# EAGLE library part STM32F103RBT6 (library growbot)
STM32F103 - Advanced ARM-based 32-bit MCU with Flash, USB, CAN, 8 16-bit timers, 2 ADC, 2 DAC, 11 communication interfaces
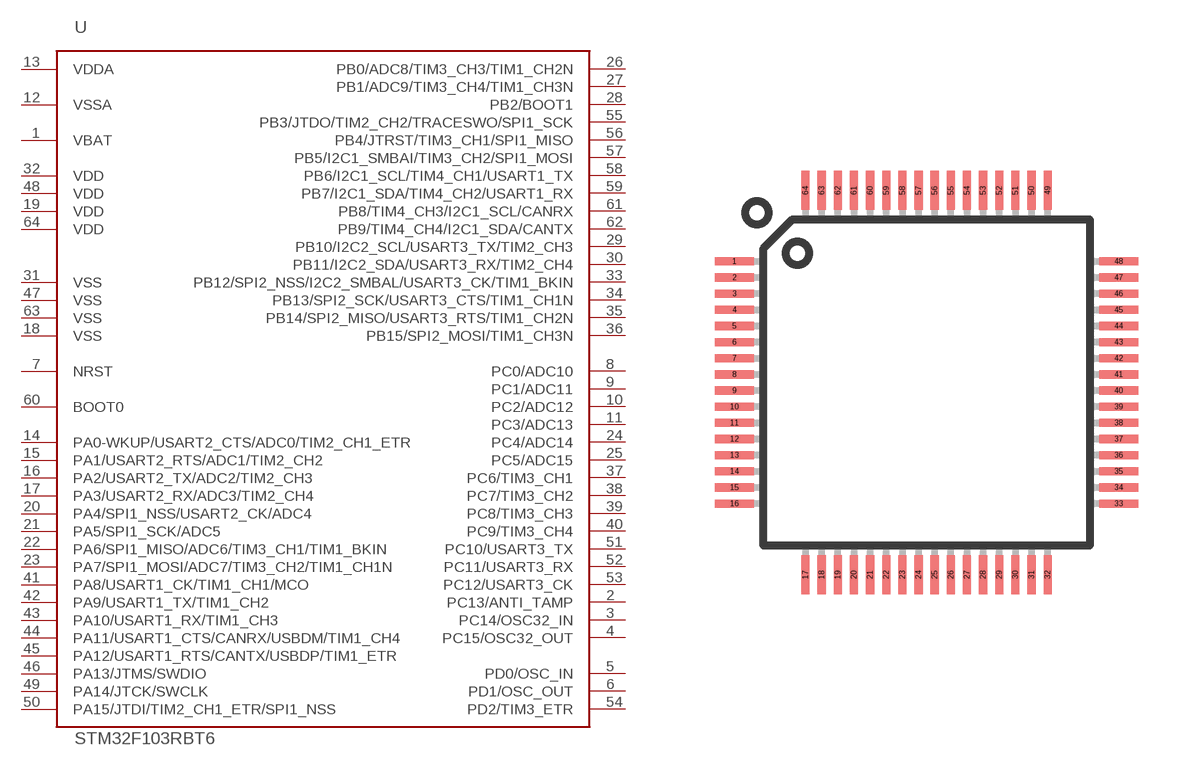
[diagram p14: symbol with the pads of LPTQFP64; footprint LPTQFP64]

Designator prefix U

## STM32F103RBT6LQFP64  [LPTQFP64]
1  VBAT  pwr
2  PC13/ANTI_TAMP
3  PC14/OSC32_IN
4  PC15/OSC32_OUT
5  PD0/OSC_IN
6  PD1/OSC_OUT
7  NRST  in
8  PC0/ADC10
9  PC1/ADC11
10  PC2/ADC12
11  PC3/ADC13
12  VSSA  pwr
13  VDDA  pwr
14  PA0-WKUP/USART2_CTS/ADC0/TIM2_CH1_ETR
15  PA1/USART2_RTS/ADC1/TIM2_CH2
16  PA2/USART2_TX/ADC2/TIM2_CH3
17  PA3/USART2_RX/ADC3/TIM2_CH4
18  VSS  pwr
19  VDD  pwr
20  PA4/SPI1_NSS/USART2_CK/ADC4
21  PA5/SPI1_SCK/ADC5
22  PA6/SPI1_MISO/ADC6/TIM3_CH1/TIM1_BKIN
23  PA7/SPI1_MOSI/ADC7/TIM3_CH2/TIM1_CH1N
24  PC4/ADC14
25  PC5/ADC15
26  PB0/ADC8/TIM3_CH3/TIM1_CH2N
27  PB1/ADC9/TIM3_CH4/TIM1_CH3N
28  PB2/BOOT1
29  PB10/I2C2_SCL/USART3_TX/TIM2_CH3
30  PB11/I2C2_SDA/USART3_RX/TIM2_CH4
31  VSS  pwr
32  VDD  pwr
33  PB12/SPI2_NSS/I2C2_SMBAL/USART3_CK/TIM1_BKIN
34  PB13/SPI2_SCK/USART3_CTS/TIM1_CH1N
35  PB14/SPI2_MISO/USART3_RTS/TIM1_CH2N
36  PB15/SPI2_MOSI/TIM1_CH3N
37  PC6/TIM3_CH1
38  PC7/TIM3_CH2
39  PC8/TIM3_CH3
40  PC9/TIM3_CH4
41  PA8/USART1_CK/TIM1_CH1/MCO
42  PA9/USART1_TX/TIM1_CH2
43  PA10/USART1_RX/TIM1_CH3
44  PA11/USART1_CTS/CANRX/USBDM/TIM1_CH4
45  PA12/USART1_RTS/CANTX/USBDP/TIM1_ETR
46  PA13/JTMS/SWDIO
47  VSS  pwr
48  VDD  pwr
49  PA14/JTCK/SWCLK
50  PA15/JTDI/TIM2_CH1_ETR/SPI1_NSS
51  PC10/USART3_TX
52  PC11/USART3_RX
53  PC12/USART3_CK
54  PD2/TIM3_ETR
55  PB3/JTDO/TIM2_CH2/TRACESWO/SPI1_SCK
56  PB4/JTRST/TIM3_CH1/SPI1_MISO
57  PB5/I2C1_SMBAI/TIM3_CH2/SPI1_MOSI
58  PB6/I2C1_SCL/TIM4_CH1/USART1_TX
59  PB7/I2C1_SDA/TIM4_CH2/USART1_RX
60  BOOT0  in
61  PB8/TIM4_CH3/I2C1_SCL/CANRX
62  PB9/TIM4_CH4/I2C1_SDA/CANTX
63  VSS  pwr
64  VDD  pwr

## Footprint LPTQFP64 (pad centres in mm)
This package is designed from Penko according to PIC32MX_Datasheet http://ww1.microchip.com/downloads/en/DeviceDoc/PIC32MX_Datasheet_v2_61143B.pdf 64-Pin Low-Profile Thin Quad Flat Package LPTQFP64 Pitch:0,5mm; Pad Width:0,254mm; Pad Length:1,2mm; Pad Distance(out edge to out edge ):12mm; Dimensions:10x10x1mm;
smd 1.2 x 0.254: 1 -5.95,3.75; 2 -5.95,3.25; 3 -5.95,2.75; 4 -5.95,2.25; 5 -5.95,1.75; 6 -5.95,1.25; 7 -5.95,0.75; 8 -5.95,0.25; 9 -5.95,-0.25; 10 -5.95,-0.75; 11 -5.95,-1.25; 12 -5.95,-1.75; 13 -5.95,-2.25; 14 -5.95,-2.75; 15 -5.95,-3.25; 16 -5.95,-3.75; 33 5.95,-3.75; 34 5.95,-3.25; 35 5.95,-2.75; 36 5.95,-2.25; 37 5.95,-1.75; 38 5.95,-1.25; 39 5.95,-0.75; 40 5.95,-0.25; 41 5.95,0.25; 42 5.95,0.75; 43 5.95,1.25; 44 5.95,1.75; 45 5.95,2.25; 46 5.95,2.75; 47 5.95,3.25; 48 5.95,3.75
smd 0.254 x 1.2: 17 -3.75,-5.95; 18 -3.25,-5.95; 19 -2.75,-5.95; 20 -2.25,-5.95; 21 -1.75,-5.95; 22 -1.25,-5.95; 23 -0.75,-5.95; 24 -0.25,-5.95; 25 0.25,-5.95; 26 0.75,-5.95; 27 1.25,-5.95; 28 1.75,-5.95; 29 2.25,-5.95; 30 2.75,-5.95; 31 3.25,-5.95; 32 3.75,-5.95; 49 3.75,5.95; 50 3.25,5.95; 51 2.75,5.95; 52 2.25,5.95; 53 1.75,5.95; 54 1.25,5.95; 55 0.75,5.95; 56 0.25,5.95; 57 -0.25,5.95; 58 -0.75,5.95; 59 -1.25,5.95; 60 -1.75,5.95; 61 -2.25,5.95; 62 -2.75,5.95; 63 -3.25,5.95; 64 -3.75,5.95